# Altium integrated library ALTIUM-WCAP-ASLI-rev17a.IntLib: 142 symbols (part 1 of 2)
Pins are listed as number, name and electrical type; pins without a type are passive.

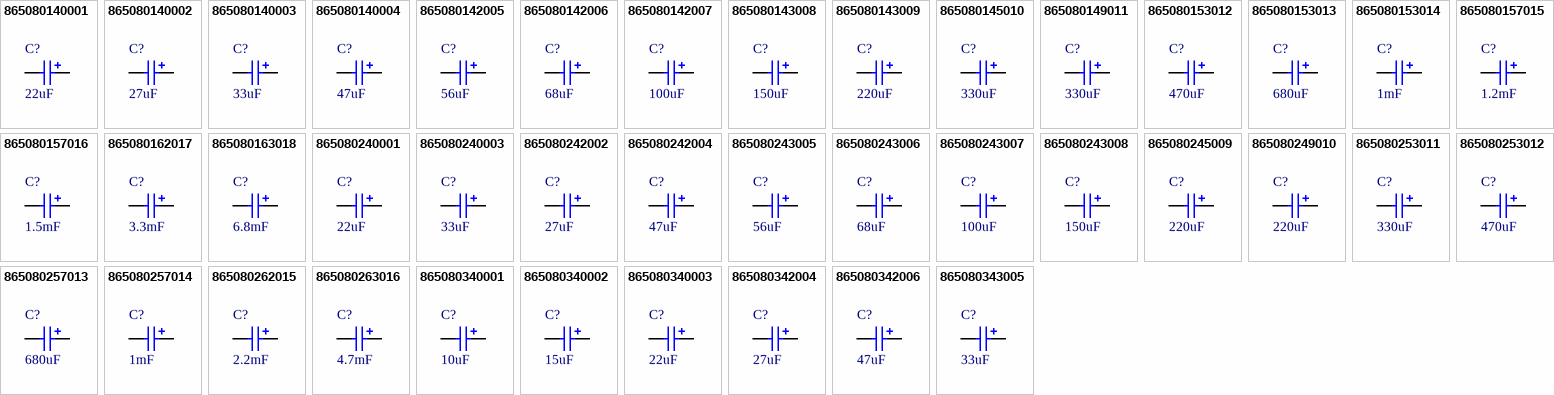
[diagram p0: symbols 865080140001 to 865080343005]

## 865080140001
designator C?  value 22uF
WCAP-ASLI Aluminum Electrolytic Capacitors, size Ф4x5.5mm, 6.3V DC, 22uF; Part Number: 865080140001; Rated Voltage: 6.3V DC; ComponentLink1Description: Manufacturer; ComponentLink1URL: http://www.we-online.de; ComponentLink2Description: Datasheet; ComponentLink2URL: http://katalog.we-online.de/pbs/datasheet/865080140001.pdf; Published Date: June 2017; Publisher: Wurth Elektronik; Size: Ф4x5.5mm; Life Cycle: 2000h; Operating Temperature: -55 °C up to +105 °C
footprint WCAP-ASLI_4x5.5
pins: 1 P, 2 N

## 865080140002
designator C?  value 27uF
WCAP-ASLI Aluminum Electrolytic Capacitors, size Ф4x5.5mm, 6.3V DC, 27uF; Part Number: 865080140002; Rated Voltage: 6.3V DC; ComponentLink1Description: Manufacturer; ComponentLink1URL: http://www.we-online.de; ComponentLink2Description: Datasheet; ComponentLink2URL: http://katalog.we-online.de/pbs/datasheet/865080140002.pdf; Published Date: June 2017; Publisher: Wurth Elektronik; Size: Ф4x5.5mm; Life Cycle: 2000h; Operating Temperature: -55 °C up to +105 °C
footprint WCAP-ASLI_4x5.5
pins: 1 P, 2 N

## 865080140003
designator C?  value 33uF
WCAP-ASLI Aluminum Electrolytic Capacitors, size Ф4x5.5mm, 6.3V DC, 33uF; Part Number: 865080140003; Rated Voltage: 6.3V DC; ComponentLink1Description: Manufacturer; ComponentLink1URL: http://www.we-online.de; ComponentLink2Description: Datasheet; ComponentLink2URL: http://katalog.we-online.de/pbs/datasheet/865080140003.pdf; Published Date: June 2017; Publisher: Wurth Elektronik; Size: Ф4x5.5mm; Life Cycle: 2000h; Operating Temperature: -55 °C up to +105 °C
footprint WCAP-ASLI_4x5.5
pins: 1 P, 2 N

## 865080140004
designator C?  value 47uF
WCAP-ASLI Aluminum Electrolytic Capacitors, size Ф4x5.5mm, 6.3V DC, 47uF; Part Number: 865080140004; Rated Voltage: 6.3V DC; ComponentLink1Description: Manufacturer; ComponentLink1URL: http://www.we-online.de; ComponentLink2Description: Datasheet; ComponentLink2URL: http://katalog.we-online.de/pbs/datasheet/865080140004.pdf; Published Date: June 2017; Publisher: Wurth Elektronik; Size: Ф4x5.5mm; Life Cycle: 2000h; Operating Temperature: -55 °C up to +105 °C
footprint WCAP-ASLI_4x5.5
pins: 1 P, 2 N

## 865080142005
designator C?  value 56uF
WCAP-ASLI Aluminum Electrolytic Capacitors, size Ф5x5.5mm, 6.3V DC, 56uF; Part Number: 865080142005; Rated Voltage: 6.3V DC; ComponentLink1Description: Manufacturer; ComponentLink1URL: http://www.we-online.de; ComponentLink2Description: Datasheet; ComponentLink2URL: http://katalog.we-online.de/pbs/datasheet/865080142005.pdf; Published Date: June 2017; Publisher: Wurth Elektronik; Size: Ф5x5.5mm; Life Cycle: 2000h; Operating Temperature: -55 °C up to +105 °C
footprint WCAP-ASLI_5x5.5
pins: 1 P, 2 N

## 865080142006
designator C?  value 68uF
WCAP-ASLI Aluminum Electrolytic Capacitors, size Ф5x5.5mm, 6.3V DC, 68uF; Part Number: 865080142006; Rated Voltage: 6.3V DC; ComponentLink1Description: Manufacturer; ComponentLink1URL: http://www.we-online.de; ComponentLink2Description: Datasheet; ComponentLink2URL: http://katalog.we-online.de/pbs/datasheet/865080142006.pdf; Published Date: June 2017; Publisher: Wurth Elektronik; Size: Ф5x5.5mm; Life Cycle: 2000h; Operating Temperature: -55 °C up to +105 °C
footprint WCAP-ASLI_5x5.5
pins: 1 P, 2 N

## 865080142007
designator C?  value 100uF
WCAP-ASLI Aluminum Electrolytic Capacitors, size Ф5x5.5mm, 6.3V DC, 100uF; Part Number: 865080142007; Rated Voltage: 6.3V DC; ComponentLink1Description: Manufacturer; ComponentLink1URL: http://www.we-online.de; ComponentLink2Description: Datasheet; ComponentLink2URL: http://katalog.we-online.de/pbs/datasheet/865080142007.pdf; Published Date: June 2017; Publisher: Wurth Elektronik; Size: Ф5x5.5mm; Life Cycle: 2000h; Operating Temperature: -55 °C up to +105 °C
footprint WCAP-ASLI_5x5.5
pins: 1 P, 2 N

## 865080143008
designator C?  value 150uF
WCAP-ASLI Aluminum Electrolytic Capacitors, size Ф6.3x5.5mm, 6.3V DC, 150uF; Part Number: 865080143008; Rated Voltage: 6.3V DC; ComponentLink1Description: Manufacturer; ComponentLink1URL: http://www.we-online.de; ComponentLink2Description: Datasheet; ComponentLink2URL: http://katalog.we-online.de/pbs/datasheet/865080143008.pdf; Published Date: June 2017; Publisher: Wurth Elektronik; Size: Ф6.3x5.5mm; Life Cycle: 2000h; Operating Temperature: -55 °C up to +105 °C
footprint WCAP-ASLI_6.3x5.5
pins: 1 P, 2 N

## 865080143009
designator C?  value 220uF
WCAP-ASLI Aluminum Electrolytic Capacitors, size Ф6.3x5.5mm, 6.3V DC, 220uF; Part Number: 865080143009; Rated Voltage: 6.3V DC; ComponentLink1Description: Manufacturer; ComponentLink1URL: http://www.we-online.de; ComponentLink2Description: Datasheet; ComponentLink2URL: http://katalog.we-online.de/pbs/datasheet/865080143009.pdf; Published Date: June 2017; Publisher: Wurth Elektronik; Size: Ф6.3x5.5mm; Life Cycle: 2000h; Operating Temperature: -55 °C up to +105 °C
footprint WCAP-ASLI_6.3x5.5
pins: 1 P, 2 N

## 865080145010
designator C?  value 330uF
WCAP-ASLI Aluminum Electrolytic Capacitors, size Ф6.3x7.7mm, 6.3V DC, 330uF; Part Number: 865080145010; Rated Voltage: 6.3V DC; ComponentLink1Description: Manufacturer; ComponentLink1URL: http://www.we-online.de; ComponentLink2Description: Datasheet; ComponentLink2URL: http://katalog.we-online.de/pbs/datasheet/865080145010.pdf; Published Date: June 2017; Publisher: Wurth Elektronik; Size: Ф6.3x7.7mm; Life Cycle: 2000h; Operating Temperature: -55 °C up to +105 °C
footprint WCAP-ASLI_6.3x7.7
pins: 1 P, 2 N

## 865080149011
designator C?  value 330uF
WCAP-ASLI Aluminum Electrolytic Capacitors, size Ф8x6.5mm, 6.3V DC, 330uF; Part Number: 865080149011; Rated Voltage: 6.3V DC; ComponentLink1Description: Manufacturer; ComponentLink1URL: http://www.we-online.de; ComponentLink2Description: Datasheet; ComponentLink2URL: http://katalog.we-online.de/pbs/datasheet/865080149011.pdf; Published Date: June 2017; Publisher: Wurth Elektronik; Size: Ф8x6.5mm; Life Cycle: 2000h; Operating Temperature: -55 °C up to +105 °C
footprint WCAP-ASLI_8x6.5
pins: 1 P, 2 N

## 865080153012
designator C?  value 470uF
WCAP-ASLI Aluminum Electrolytic Capacitors, size Ф8x10.5mm, 6.3V DC, 470uF; Part Number: 865080153012; Rated Voltage: 6.3V DC; ComponentLink1Description: Manufacturer; ComponentLink1URL: http://www.we-online.de; ComponentLink2Description: Datasheet; ComponentLink2URL: http://katalog.we-online.de/pbs/datasheet/865080153012.pdf; Published Date: June 2017; Publisher: Wurth Elektronik; Size: Ф8x10.5mm; Life Cycle: 2000h; Operating Temperature: -55 °C up to +105 °C
footprint WCAP-ASLI_8x10.5
pins: 1 P, 2 N

## 865080153013
designator C?  value 680uF
WCAP-ASLI Aluminum Electrolytic Capacitors, size Ф8x10.5mm, 6.3V DC, 680uF; Part Number: 865080153013; Rated Voltage: 6.3V DC; ComponentLink1Description: Manufacturer; ComponentLink1URL: http://www.we-online.de; ComponentLink2Description: Datasheet; ComponentLink2URL: http://katalog.we-online.de/pbs/datasheet/865080153013.pdf; Published Date: June 2017; Publisher: Wurth Elektronik; Size: Ф8x10.5mm; Life Cycle: 2000h; Operating Temperature: -55 °C up to +105 °C
footprint WCAP-ASLI_8x10.5
pins: 1 P, 2 N

## 865080153014
designator C?  value 1mF
WCAP-ASLI Aluminum Electrolytic Capacitors, size Ф8x10.5mm, 6.3V DC, 1mF; Part Number: 865080153014; Rated Voltage: 6.3V DC; ComponentLink1Description: Manufacturer; ComponentLink1URL: http://www.we-online.de; ComponentLink2Description: Datasheet; ComponentLink2URL: http://katalog.we-online.de/pbs/datasheet/865080153014.pdf; Published Date: June 2017; Publisher: Wurth Elektronik; Size: Ф8x10.5mm; Life Cycle: 2000h; Operating Temperature: -55 °C up to +105 °C
footprint WCAP-ASLI_8x10.5
pins: 1 P, 2 N

## 865080157015
designator C?  value 1.2mF
WCAP-ASLI Aluminum Electrolytic Capacitors, size Ф10x10.5mm, 6.3V DC, 1.2mF; Part Number: 865080157015; Rated Voltage: 6.3V DC; ComponentLink1Description: Manufacturer; ComponentLink1URL: http://www.we-online.de; ComponentLink2Description: Datasheet; ComponentLink2URL: http://katalog.we-online.de/pbs/datasheet/865080157015.pdf; Published Date: June 2017; Publisher: Wurth Elektronik; Size: Ф10x10.5mm; Life Cycle: 2000h; Operating Temperature: -55 °C up to +105 °C
footprint WCAP-ASLI_10x10.5
pins: 1 P, 2 N

## 865080157016
designator C?  value 1.5mF
WCAP-ASLI Aluminum Electrolytic Capacitors, size Ф10x10.5mm, 6.3V DC, 1.5mF; Part Number: 865080157016; Rated Voltage: 6.3V DC; ComponentLink1Description: Manufacturer; ComponentLink1URL: http://www.we-online.de; ComponentLink2Description: Datasheet; ComponentLink2URL: http://katalog.we-online.de/pbs/datasheet/865080157016.pdf; Published Date: June 2017; Publisher: Wurth Elektronik; Size: Ф10x10.5mm; Life Cycle: 2000h; Operating Temperature: -55 °C up to +105 °C
footprint WCAP-ASLI_10x10.5
pins: 1 P, 2 N

## 865080162017
designator C?  value 3.3mF
WCAP-ASLI Aluminum Electrolytic Capacitors, size Ф12.5x14mm, 6.3V DC, 3.3mF; Part Number: 865080162017; Rated Voltage: 6.3V DC; ComponentLink1Description: Manufacturer; ComponentLink1URL: http://www.we-online.de; ComponentLink2Description: Datasheet; ComponentLink2URL: http://katalog.we-online.de/pbs/datasheet/865080162017.pdf; Published Date: June 2017; Publisher: Wurth Elektronik; Size: Ф12.5x14mm; Life Cycle: 2000h; Operating Temperature: -55 °C up to +105 °C
footprint WCAP-ASLI_12.5x14
pins: 1 P, 2 N

## 865080163018
designator C?  value 6.8mF
WCAP-ASLI Aluminum Electrolytic Capacitors, size Ф16x17mm, 6.3V DC, 6.8mF; Part Number: 865080163018; Rated Voltage: 6.3V DC; ComponentLink1Description: Manufacturer; ComponentLink1URL: http://www.we-online.de; ComponentLink2Description: Datasheet; ComponentLink2URL: http://katalog.we-online.de/pbs/datasheet/865080163018.pdf; Published Date: June 2017; Publisher: Wurth Elektronik; Size: Ф16x17mm; Life Cycle: 2000h; Operating Temperature: -55 °C up to +105 °C
footprint WCAP-ASLI_16x17
pins: 1 P, 2 N

## 865080240001
designator C?  value 22uF
WCAP-ASLI Aluminum Electrolytic Capacitors, size Ф4x5.5mm, 10V DC, 22uF; Part Number: 865080240001; Rated Voltage: 10V DC; ComponentLink1Description: Manufacturer; ComponentLink1URL: http://www.we-online.de; ComponentLink2Description: Datasheet; ComponentLink2URL: http://katalog.we-online.de/pbs/datasheet/865080240001.pdf; Published Date: June 2017; Publisher: Wurth Elektronik; Size: Ф4x5.5mm; Life Cycle: 2000h; Operating Temperature: -55 °C up to +105 °C
footprint WCAP-ASLI_4x5.5
pins: 1 P, 2 N

## 865080240003
designator C?  value 33uF
WCAP-ASLI Aluminum Electrolytic Capacitors, size Ф4x5.5mm, 10V DC, 33uF; Part Number: 865080240003; Rated Voltage: 10V DC; ComponentLink1Description: Manufacturer; ComponentLink1URL: http://www.we-online.de; ComponentLink2Description: Datasheet; ComponentLink2URL: http://katalog.we-online.de/pbs/datasheet/865080240003.pdf; Published Date: June 2017; Publisher: Wurth Elektronik; Size: Ф4x5.5mm; Life Cycle: 2000h; Operating Temperature: -55 °C up to +105 °C
footprint WCAP-ASLI_4x5.5
pins: 1 P, 2 N

## 865080242002
designator C?  value 27uF
WCAP-ASLI Aluminum Electrolytic Capacitors, size Ф5x5.5mm, 10V DC, 27uF; Part Number: 865080242002; Rated Voltage: 10V DC; ComponentLink1Description: Manufacturer; ComponentLink1URL: http://www.we-online.de; ComponentLink2Description: Datasheet; ComponentLink2URL: http://katalog.we-online.de/pbs/datasheet/865080242002.pdf; Published Date: June 2017; Publisher: Wurth Elektronik; Size: Ф5x5.5mm; Life Cycle: 2000h; Operating Temperature: -55 °C up to +105 °C
footprint WCAP-ASLI_5x5.5
pins: 1 P, 2 N

## 865080242004
designator C?  value 47uF
WCAP-ASLI Aluminum Electrolytic Capacitors, size Ф5x5.5mm, 10V DC, 47uF; Part Number: 865080242004; Rated Voltage: 10V DC; ComponentLink1Description: Manufacturer; ComponentLink1URL: http://www.we-online.de; ComponentLink2Description: Datasheet; ComponentLink2URL: http://katalog.we-online.de/pbs/datasheet/865080242004.pdf; Published Date: June 2017; Publisher: Wurth Elektronik; Size: Ф5x5.5mm; Life Cycle: 2000h; Operating Temperature: -55 °C up to +105 °C
footprint WCAP-ASLI_5x5.5 (Aluminium Electrolytic V-Chip SMT Capacitors, Ф5x5.5mm)
pins: 1 P, 2 N

## 865080243005
designator C?  value 56uF
WCAP-ASLI Aluminum Electrolytic Capacitors, size Ф6.3x5.5mm, 10V DC, 56uF; Part Number: 865080243005; Rated Voltage: 10V DC; ComponentLink1Description: Manufacturer; ComponentLink1URL: http://www.we-online.de; ComponentLink2Description: Datasheet; ComponentLink2URL: http://katalog.we-online.de/pbs/datasheet/865080243005.pdf; Published Date: June 2017; Publisher: Wurth Elektronik; Size: Ф6.3x5.5mm; Life Cycle: 2000h; Operating Temperature: -55 °C up to +105 °C
footprint WCAP-ASLI_6.3x5.5
pins: 1 P, 2 N

## 865080243006
designator C?  value 68uF
WCAP-ASLI Aluminum Electrolytic Capacitors, size Ф6.3x5.5mm, 10V DC, 68uF; Part Number: 865080243006; Rated Voltage: 10V DC; ComponentLink1Description: Manufacturer; ComponentLink1URL: http://www.we-online.de; ComponentLink2Description: Datasheet; ComponentLink2URL: http://katalog.we-online.de/pbs/datasheet/865080243006.pdf; Published Date: June 2017; Publisher: Wurth Elektronik; Size: Ф6.3x5.5mm; Life Cycle: 2000h; Operating Temperature: -55 °C up to +105 °C
footprint WCAP-ASLI_6.3x5.5
pins: 1 P, 2 N

## 865080243007
designator C?  value 100uF
WCAP-ASLI Aluminum Electrolytic Capacitors, size Ф6.3x5.5mm, 10V DC, 100uF; Part Number: 865080243007; Rated Voltage: 10V DC; ComponentLink1Description: Manufacturer; ComponentLink1URL: http://www.we-online.de; ComponentLink2Description: Datasheet; ComponentLink2URL: http://katalog.we-online.de/pbs/datasheet/865080243007.pdf; Published Date: June 2017; Publisher: Wurth Elektronik; Size: Ф6.3x5.5mm; Life Cycle: 2000h; Operating Temperature: -55 °C up to +105 °C
footprint WCAP-ASLI_6.3x5.5
pins: 1 P, 2 N

## 865080243008
designator C?  value 150uF
WCAP-ASLI Aluminum Electrolytic Capacitors, size Ф6.3x5.5mm, 10V DC, 150uF; Part Number: 865080243008; Rated Voltage: 10V DC; ComponentLink1Description: Manufacturer; ComponentLink1URL: http://www.we-online.de; ComponentLink2Description: Datasheet; ComponentLink2URL: http://katalog.we-online.de/pbs/datasheet/865080243008.pdf; Published Date: June 2017; Publisher: Wurth Elektronik; Size: Ф6.3x5.5mm; Life Cycle: 2000h; Operating Temperature: -55 °C up to +105 °C
footprint WCAP-ASLI_6.3x5.5
pins: 1 P, 2 N

## 865080245009
designator C?  value 220uF
WCAP-ASLI Aluminum Electrolytic Capacitors, size Ф6.3x7.7mm, 10V DC, 220uF; Part Number: 865080245009; Rated Voltage: 10V DC; ComponentLink1Description: Manufacturer; ComponentLink1URL: http://www.we-online.de; ComponentLink2Description: Datasheet; ComponentLink2URL: http://katalog.we-online.de/pbs/datasheet/865080245009.pdf; Published Date: June 2017; Publisher: Wurth Elektronik; Size: Ф6.3x7.7mm; Life Cycle: 2000h; Operating Temperature: -55 °C up to +105 °C
footprint WCAP-ASLI_6.3x7.7
pins: 1 P, 2 N

## 865080249010
designator C?  value 220uF
WCAP-ASLI Aluminum Electrolytic Capacitors, size Ф8x6.5mm, 10V DC, 220uF; Part Number: 865080249010; Rated Voltage: 10V DC; ComponentLink1Description: Manufacturer; ComponentLink1URL: http://www.we-online.de; ComponentLink2Description: Datasheet; ComponentLink2URL: http://katalog.we-online.de/pbs/datasheet/865080249010.pdf; Published Date: June 2017; Publisher: Wurth Elektronik; Size: Ф8x6.5mm; Life Cycle: 2000h; Operating Temperature: -55 °C up to +105 °C
footprint WCAP-ASLI_8x6.5
pins: 1 P, 2 N

## 865080253011
designator C?  value 330uF
WCAP-ASLI Aluminum Electrolytic Capacitors, size Ф8x10.5mm, 10V DC, 330uF; Part Number: 865080253011; Rated Voltage: 10V DC; ComponentLink1Description: Manufacturer; ComponentLink1URL: http://www.we-online.de; ComponentLink2Description: Datasheet; ComponentLink2URL: http://katalog.we-online.de/pbs/datasheet/865080253011.pdf; Published Date: June 2017; Publisher: Wurth Elektronik; Size: Ф8x10.5mm; Life Cycle: 2000h; Operating Temperature: -55 °C up to +105 °C
footprint WCAP-ASLI_8x10.5
pins: 1 P, 2 N

## 865080253012
designator C?  value 470uF
WCAP-ASLI Aluminum Electrolytic Capacitors, size Ф8x10.5mm, 10V DC, 470uF; Part Number: 865080253012; Rated Voltage: 10V DC; ComponentLink1Description: Manufacturer; ComponentLink1URL: http://www.we-online.de; ComponentLink2Description: Datasheet; ComponentLink2URL: http://katalog.we-online.de/pbs/datasheet/865080253012.pdf; Published Date: June 2017; Publisher: Wurth Elektronik; Size: Ф8x10.5mm; Life Cycle: 2000h; Operating Temperature: -55 °C up to +105 °C
footprint WCAP-ASLI_8x10.5
pins: 1 P, 2 N

## 865080257013
designator C?  value 680uF
WCAP-ASLI Aluminum Electrolytic Capacitors, size Ф10x10.5mm, 10V DC, 680uF; Part Number: 865080257013; Rated Voltage: 10V DC; ComponentLink1Description: Manufacturer; ComponentLink1URL: http://www.we-online.de; ComponentLink2Description: Datasheet; ComponentLink2URL: http://katalog.we-online.de/pbs/datasheet/865080257013.pdf; Published Date: June 2017; Publisher: Wurth Elektronik; Size: Ф10x10.5mm; Life Cycle: 2000h; Operating Temperature: -55 °C up to +105 °C
footprint WCAP-ASLI_10x10.5
pins: 1 P, 2 N

## 865080257014
designator C?  value 1mF
WCAP-ASLI Aluminum Electrolytic Capacitors, size Ф10x10.5mm, 10V DC, 1mF; Part Number: 865080257014; Rated Voltage: 10V DC; ComponentLink1Description: Manufacturer; ComponentLink1URL: http://www.we-online.de; ComponentLink2Description: Datasheet; ComponentLink2URL: http://katalog.we-online.de/pbs/datasheet/865080257014.pdf; Published Date: June 2017; Publisher: Wurth Elektronik; Size: Ф10x10.5mm; Life Cycle: 2000h; Operating Temperature: -55 °C up to +105 °C
footprint WCAP-ASLI_10x10.5
pins: 1 P, 2 N

## 865080262015
designator C?  value 2.2mF
WCAP-ASLI Aluminum Electrolytic Capacitors, size Ф12.5x14mm, 10V DC, 2.2mF; Part Number: 865080262015; Rated Voltage: 10V DC; ComponentLink1Description: Manufacturer; ComponentLink1URL: http://www.we-online.de; ComponentLink2Description: Datasheet; ComponentLink2URL: http://katalog.we-online.de/pbs/datasheet/865080262015.pdf; Published Date: June 2017; Publisher: Wurth Elektronik; Size: Ф12.5x14mm; Life Cycle: 2000h; Operating Temperature: -55 °C up to +105 °C
footprint WCAP-ASLI_12.5x14
pins: 1 P, 2 N

## 865080263016
designator C?  value 4.7mF
WCAP-ASLI Aluminum Electrolytic Capacitors, size Ф16x17mm, 10V DC, 4.7mF; Part Number: 865080263016; Rated Voltage: 10V DC; ComponentLink1Description: Manufacturer; ComponentLink1URL: http://www.we-online.de; ComponentLink2Description: Datasheet; ComponentLink2URL: http://katalog.we-online.de/pbs/datasheet/865080263016.pdf; Published Date: June 2017; Publisher: Wurth Elektronik; Size: Ф16x17mm; Life Cycle: 2000h; Operating Temperature: -55 °C up to +105 °C
footprint WCAP-ASLI_16x17
pins: 1 P, 2 N

## 865080340001
designator C?  value 10uF
WCAP-ASLI Aluminum Electrolytic Capacitors, size Ф4x5.5mm, 16V DC, 10uF; Part Number: 865080340001; Rated Voltage: 16V DC; ComponentLink1Description: Manufacturer; ComponentLink1URL: http://www.we-online.de; ComponentLink2Description: Datasheet; ComponentLink2URL: http://katalog.we-online.de/pbs/datasheet/865080340001.pdf; Published Date: June 2017; Publisher: Wurth Elektronik; Size: Ф4x5.5mm; Life Cycle: 2000h; Operating Temperature: -55 °C up to +105 °C
footprint WCAP-ASLI_4x5.5
pins: 1 P, 2 N

## 865080340002
designator C?  value 15uF
WCAP-ASLI Aluminum Electrolytic Capacitors, size Ф4x5.5mm, 16V DC, 15uF; Part Number: 865080340002; Rated Voltage: 16V DC; ComponentLink1Description: Manufacturer; ComponentLink1URL: http://www.we-online.de; ComponentLink2Description: Datasheet; ComponentLink2URL: http://katalog.we-online.de/pbs/datasheet/865080340002.pdf; Published Date: June 2017; Publisher: Wurth Elektronik; Size: Ф4x5.5mm; Life Cycle: 2000h; Operating Temperature: -55 °C up to +105 °C
footprint WCAP-ASLI_4x5.5
pins: 1 P, 2 N

## 865080340003
designator C?  value 22uF
WCAP-ASLI Aluminum Electrolytic Capacitors, size Ф4x5.5mm, 16V DC, 22uF; Part Number: 865080340003; Rated Voltage: 16V DC; ComponentLink1Description: Manufacturer; ComponentLink1URL: http://www.we-online.de; ComponentLink2Description: Datasheet; ComponentLink2URL: http://katalog.we-online.de/pbs/datasheet/865080340003.pdf; Published Date: June 2017; Publisher: Wurth Elektronik; Size: Ф4x5.5mm; Life Cycle: 2000h; Operating Temperature: -55 °C up to +105 °C
footprint WCAP-ASLI_4x5.5
pins: 1 P, 2 N

## 865080342004
designator C?  value 27uF
WCAP-ASLI Aluminum Electrolytic Capacitors, size Ф5x5.5mm, 16V DC, 27uF; Part Number: 865080342004; Rated Voltage: 16V DC; ComponentLink1Description: Manufacturer; ComponentLink1URL: http://www.we-online.de; ComponentLink2Description: Datasheet; ComponentLink2URL: http://katalog.we-online.de/pbs/datasheet/865080342004.pdf; Published Date: June 2017; Publisher: Wurth Elektronik; Size: Ф5x5.5mm; Life Cycle: 2000h; Operating Temperature: -55 °C up to +105 °C
footprint WCAP-ASLI_5x5.5
pins: 1 P, 2 N

## 865080342006
designator C?  value 47uF
WCAP-ASLI Aluminum Electrolytic Capacitors, size Ф5x5.5mm, 16V DC, 47uF; Part Number: 865080342006; Rated Voltage: 16V DC; ComponentLink1Description: Manufacturer; ComponentLink1URL: http://www.we-online.de; ComponentLink2Description: Datasheet; ComponentLink2URL: http://katalog.we-online.de/pbs/datasheet/865080342006.pdf; Published Date: June 2017; Publisher: Wurth Elektronik; Size: Ф5x5.5mm; Life Cycle: 2000h; Operating Temperature: -55 °C up to +105 °C
footprint WCAP-ASLI_5x5.5
pins: 1 P, 2 N

## 865080343005
designator C?  value 33uF
WCAP-ASLI Aluminum Electrolytic Capacitors, size Ф6.3x5.5mm, 16V DC, 33uF; Part Number: 865080343005; Rated Voltage: 16V DC; ComponentLink1Description: Manufacturer; ComponentLink1URL: http://www.we-online.de; ComponentLink2Description: Datasheet; ComponentLink2URL: http://katalog.we-online.de/pbs/datasheet/865080343005.pdf; Published Date: June 2017; Publisher: Wurth Elektronik; Size: Ф6.3x5.5mm; Life Cycle: 2000h; Operating Temperature: -55 °C up to +105 °C
footprint WCAP-ASLI_6.3x5.5
pins: 1 P, 2 N

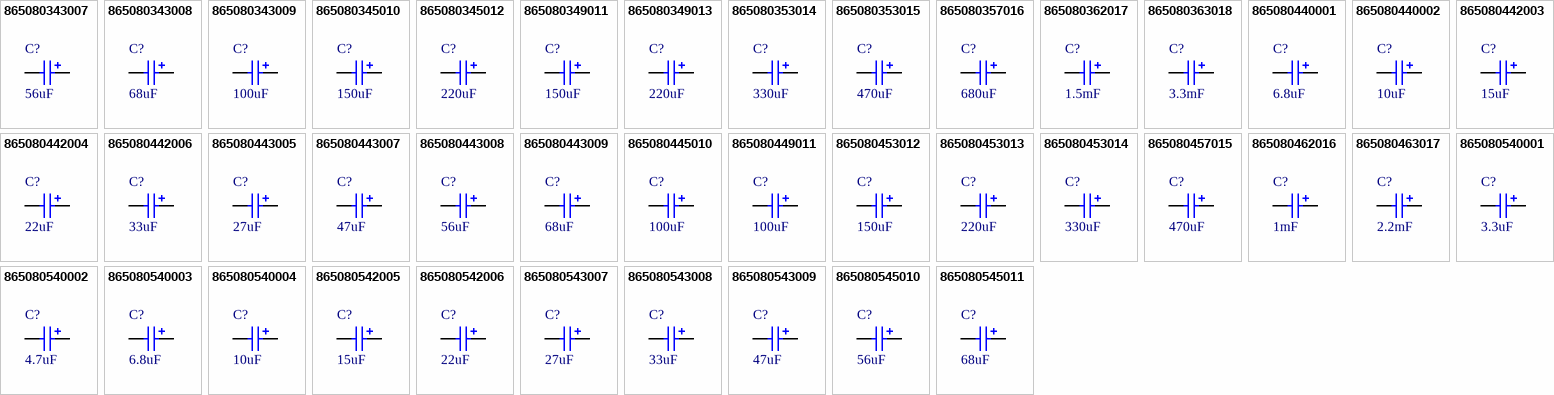
[diagram p1: symbols 865080343007 to 865080545011]

## 865080343007
designator C?  value 56uF
WCAP-ASLI Aluminum Electrolytic Capacitors, size Ф6.3x5.5mm, 16V DC, 56uF; Part Number: 865080343007; Rated Voltage: 16V DC; ComponentLink1Description: Manufacturer; ComponentLink1URL: http://www.we-online.de; ComponentLink2Description: Datasheet; ComponentLink2URL: http://katalog.we-online.de/pbs/datasheet/865080343007.pdf; Published Date: June 2017; Publisher: Wurth Elektronik; Size: Ф6.3x5.5mm; Life Cycle: 2000h; Operating Temperature: -55 °C up to +105 °C
footprint WCAP-ASLI_6.3x5.5
pins: 1 P, 2 N

## 865080343008
designator C?  value 68uF
WCAP-ASLI Aluminum Electrolytic Capacitors, size Ф6.3x5.5mm, 16V DC, 68uF; Part Number: 865080343008; Rated Voltage: 16V DC; ComponentLink1Description: Manufacturer; ComponentLink1URL: http://www.we-online.de; ComponentLink2Description: Datasheet; ComponentLink2URL: http://katalog.we-online.de/pbs/datasheet/865080343008.pdf; Published Date: June 2017; Publisher: Wurth Elektronik; Size: Ф6.3x5.5mm; Life Cycle: 2000h; Operating Temperature: -55 °C up to +105 °C
footprint WCAP-ASLI_6.3x5.5
pins: 1 P, 2 N

## 865080343009
designator C?  value 100uF
WCAP-ASLI Aluminum Electrolytic Capacitors, size Ф6.3x5.5mm, 16V DC, 100uF; Part Number: 865080343009; Rated Voltage: 16V DC; ComponentLink1Description: Manufacturer; ComponentLink1URL: http://www.we-online.de; ComponentLink2Description: Datasheet; ComponentLink2URL: http://katalog.we-online.de/pbs/datasheet/865080343009.pdf; Published Date: June 2017; Publisher: Wurth Elektronik; Size: Ф6.3x5.5mm; Life Cycle: 2000h; Operating Temperature: -55 °C up to +105 °C
footprint WCAP-ASLI_6.3x5.5
pins: 1 P, 2 N

## 865080345010
designator C?  value 150uF
WCAP-ASLI Aluminum Electrolytic Capacitors, size Ф6.3x7.7mm, 16V DC, 150uF; Part Number: 865080345010; Rated Voltage: 16V DC; ComponentLink1Description: Manufacturer; ComponentLink1URL: http://www.we-online.de; ComponentLink2Description: Datasheet; ComponentLink2URL: http://katalog.we-online.de/pbs/datasheet/865080345010.pdf; Published Date: June 2017; Publisher: Wurth Elektronik; Size: Ф6.3x7.7mm; Life Cycle: 2000h; Operating Temperature: -55 °C up to +105 °C
footprint WCAP-ASLI_6.3x7.7
pins: 1 P, 2 N

## 865080345012
designator C?  value 220uF
WCAP-ASLI Aluminum Electrolytic Capacitors, size Ф6.3x7.7mm, 16V DC, 220uF; Part Number: 865080345012; Rated Voltage: 16V DC; ComponentLink1Description: Manufacturer; ComponentLink1URL: http://www.we-online.de; ComponentLink2Description: Datasheet; ComponentLink2URL: http://katalog.we-online.de/pbs/datasheet/865080345012.pdf; Published Date: June 2017; Publisher: Wurth Elektronik; Size: Ф6.3x7.7mm; Life Cycle: 2000h; Operating Temperature: -55 °C up to +105 °C
footprint WCAP-ASLI_6.3x7.7
pins: 1 P, 2 N

## 865080349011
designator C?  value 150uF
WCAP-ASLI Aluminum Electrolytic Capacitors, size Ф8x6.5mm, 16V DC, 150uF; Part Number: 865080349011; Rated Voltage: 16V DC; ComponentLink1Description: Manufacturer; ComponentLink1URL: http://www.we-online.de; ComponentLink2Description: Datasheet; ComponentLink2URL: http://katalog.we-online.de/pbs/datasheet/865080349011.pdf; Published Date: June 2017; Publisher: Wurth Elektronik; Size: Ф8x6.5mm; Life Cycle: 2000h; Operating Temperature: -55 °C up to +105 °C
footprint WCAP-ASLI_8x6.5
pins: 1 P, 2 N

## 865080349013
designator C?  value 220uF
WCAP-ASLI Aluminum Electrolytic Capacitors, size Ф8x6.5mm, 16V DC, 220uF; Part Number: 865080349013; Rated Voltage: 16V DC; ComponentLink1Description: Manufacturer; ComponentLink1URL: http://www.we-online.de; ComponentLink2Description: Datasheet; ComponentLink2URL: http://katalog.we-online.de/pbs/datasheet/865080349013.pdf; Published Date: June 2017; Publisher: Wurth Elektronik; Size: Ф8x6.5mm; Life Cycle: 2000h; Operating Temperature: -55 °C up to +105 °C
footprint WCAP-ASLI_8x6.5
pins: 1 P, 2 N

## 865080353014
designator C?  value 330uF
WCAP-ASLI Aluminum Electrolytic Capacitors, size Ф8x10.5mm, 16V DC, 330uF; Part Number: 865080353014; Rated Voltage: 16V DC; ComponentLink1Description: Manufacturer; ComponentLink1URL: http://www.we-online.de; ComponentLink2Description: Datasheet; ComponentLink2URL: http://katalog.we-online.de/pbs/datasheet/865080353014.pdf; Published Date: June 2017; Publisher: Wurth Elektronik; Size: Ф8x10.5mm; Life Cycle: 2000h; Operating Temperature: -55 °C up to +105 °C
footprint WCAP-ASLI_8x10.5
pins: 1 P, 2 N

## 865080353015
designator C?  value 470uF
WCAP-ASLI Aluminum Electrolytic Capacitors, size Ф8x10.5mm, 16V DC, 470uF; Part Number: 865080353015; Rated Voltage: 16V DC; ComponentLink1Description: Manufacturer; ComponentLink1URL: http://www.we-online.de; ComponentLink2Description: Datasheet; ComponentLink2URL: http://katalog.we-online.de/pbs/datasheet/865080353015.pdf; Published Date: June 2017; Publisher: Wurth Elektronik; Size: Ф8x10.5mm; Life Cycle: 2000h; Operating Temperature: -55 °C up to +105 °C
footprint WCAP-ASLI_8x10.5
pins: 1 P, 2 N

## 865080357016
designator C?  value 680uF
WCAP-ASLI Aluminum Electrolytic Capacitors, size Ф10x10.5mm, 16V DC, 680uF; Part Number: 865080357016; Rated Voltage: 16V DC; ComponentLink1Description: Manufacturer; ComponentLink1URL: http://www.we-online.de; ComponentLink2Description: Datasheet; ComponentLink2URL: http://katalog.we-online.de/pbs/datasheet/865080357016.pdf; Published Date: June 2017; Publisher: Wurth Elektronik; Size: Ф10x10.5mm; Life Cycle: 2000h; Operating Temperature: -55 °C up to +105 °C
footprint WCAP-ASLI_10x10.5
pins: 1 P, 2 N

## 865080362017
designator C?  value 1.5mF
WCAP-ASLI Aluminum Electrolytic Capacitors, size Ф12.5x14mm, 16V DC, 1.5mF; Part Number: 865080362017; Rated Voltage: 16V DC; ComponentLink1Description: Manufacturer; ComponentLink1URL: http://www.we-online.de; ComponentLink2Description: Datasheet; ComponentLink2URL: http://katalog.we-online.de/pbs/datasheet/865080362017.pdf; Published Date: June 2017; Publisher: Wurth Elektronik; Size: Ф12.5x14mm; Life Cycle: 2000h; Operating Temperature: -55 °C up to +105 °C
footprint WCAP-ASLI_12.5x14
pins: 1 P, 2 N

## 865080363018
designator C?  value 3.3mF
WCAP-ASLI Aluminum Electrolytic Capacitors, size Ф16x17mm, 16V DC, 3.3mF; Part Number: 865080363018; Rated Voltage: 16V DC; ComponentLink1Description: Manufacturer; ComponentLink1URL: http://www.we-online.de; ComponentLink2Description: Datasheet; ComponentLink2URL: http://katalog.we-online.de/pbs/datasheet/865080363018.pdf; Published Date: June 2017; Publisher: Wurth Elektronik; Size: Ф16x17mm; Life Cycle: 2000h; Operating Temperature: -55 °C up to +105 °C
footprint WCAP-ASLI_16x17
pins: 1 P, 2 N

## 865080440001
designator C?  value 6.8uF
WCAP-ASLI Aluminum Electrolytic Capacitors, size Ф4x5.5mm, 25V DC, 6.8uF; Part Number: 865080440001; Rated Voltage: 25V DC; ComponentLink1Description: Manufacturer; ComponentLink1URL: http://www.we-online.de; ComponentLink2Description: Datasheet; ComponentLink2URL: http://katalog.we-online.de/pbs/datasheet/865080440001.pdf; Published Date: June 2017; Publisher: Wurth Elektronik; Size: Ф4x5.5mm; Life Cycle: 2000h; Operating Temperature: -55 °C up to +105 °C
footprint WCAP-ASLI_4x5.5
pins: 1 P, 2 N

## 865080440002
designator C?  value 10uF
WCAP-ASLI Aluminum Electrolytic Capacitors, size Ф4x5.5mm, 25V DC, 10uF; Part Number: 865080440002; Rated Voltage: 25V DC; ComponentLink1Description: Manufacturer; ComponentLink1URL: http://www.we-online.de; ComponentLink2Description: Datasheet; ComponentLink2URL: http://katalog.we-online.de/pbs/datasheet/865080440002.pdf; Published Date: June 2017; Publisher: Wurth Elektronik; Size: Ф4x5.5mm; Life Cycle: 2000h; Operating Temperature: -55 °C up to +105 °C
footprint WCAP-ASLI_4x5.5
pins: 1 P, 2 N

## 865080442003
designator C?  value 15uF
WCAP-ASLI Aluminum Electrolytic Capacitors, size Ф5x5.5mm, 25V DC, 15uF; Part Number: 865080442003; Rated Voltage: 25V DC; ComponentLink1Description: Manufacturer; ComponentLink1URL: http://www.we-online.de; ComponentLink2Description: Datasheet; ComponentLink2URL: http://katalog.we-online.de/pbs/datasheet/865080442003.pdf; Published Date: June 2017; Publisher: Wurth Elektronik; Size: Ф5x5.5mm; Life Cycle: 2000h; Operating Temperature: -55 °C up to +105 °C
footprint WCAP-ASLI_5x5.5
pins: 1 P, 2 N

## 865080442004
designator C?  value 22uF
WCAP-ASLI Aluminum Electrolytic Capacitors, size Ф5x5.5mm, 25V DC, 22uF; Part Number: 865080442004; Rated Voltage: 25V DC; ComponentLink1Description: Manufacturer; ComponentLink1URL: http://www.we-online.de; ComponentLink2Description: Datasheet; ComponentLink2URL: http://katalog.we-online.de/pbs/datasheet/865080442004.pdf; Published Date: June 2017; Publisher: Wurth Elektronik; Size: Ф5x5.5mm; Life Cycle: 2000h; Operating Temperature: -55 °C up to +105 °C
footprint WCAP-ASLI_5x5.5
pins: 1 P, 2 N

## 865080442006
designator C?  value 33uF
WCAP-ASLI Aluminum Electrolytic Capacitors, size Ф5x5.5mm, 25V DC, 33uF; Part Number: 865080442006; Rated Voltage: 25V DC; ComponentLink1Description: Manufacturer; ComponentLink1URL: http://www.we-online.de; ComponentLink2Description: Datasheet; ComponentLink2URL: http://katalog.we-online.de/pbs/datasheet/865080442006.pdf; Published Date: June 2017; Publisher: Wurth Elektronik; Size: Ф5x5.5mm; Life Cycle: 2000h; Operating Temperature: -55 °C up to +105 °C
footprint WCAP-ASLI_5x5.5
pins: 1 P, 2 N

## 865080443005
designator C?  value 27uF
WCAP-ASLI Aluminum Electrolytic Capacitors, size Ф6.3x5.5mm, 25V DC, 27uF; Part Number: 865080443005; Rated Voltage: 25V DC; ComponentLink1Description: Manufacturer; ComponentLink1URL: http://www.we-online.de; ComponentLink2Description: Datasheet; ComponentLink2URL: http://katalog.we-online.de/pbs/datasheet/865080443005.pdf; Published Date: June 2017; Publisher: Wurth Elektronik; Size: Ф6.3x5.5mm; Life Cycle: 2000h; Operating Temperature: -55 °C up to +105 °C
footprint WCAP-ASLI_6.3x5.5
pins: 1 P, 2 N

## 865080443007
designator C?  value 47uF
WCAP-ASLI Aluminum Electrolytic Capacitors, size Ф6.3x5.5mm, 25V DC, 47uF; Part Number: 865080443007; Rated Voltage: 25V DC; ComponentLink1Description: Manufacturer; ComponentLink1URL: http://www.we-online.de; ComponentLink2Description: Datasheet; ComponentLink2URL: http://katalog.we-online.de/pbs/datasheet/865080443007.pdf; Published Date: June 2017; Publisher: Wurth Elektronik; Size: Ф6.3x5.5mm; Life Cycle: 2000h; Operating Temperature: -55 °C up to +105 °C
footprint WCAP-ASLI_6.3x5.5
pins: 1 P, 2 N

## 865080443008
designator C?  value 56uF
WCAP-ASLI Aluminum Electrolytic Capacitors, size Ф6.3x5.5mm, 25V DC, 56uF; Part Number: 865080443008; Rated Voltage: 25V DC; ComponentLink1Description: Manufacturer; ComponentLink1URL: http://www.we-online.de; ComponentLink2Description: Datasheet; ComponentLink2URL: http://katalog.we-online.de/pbs/datasheet/865080443008.pdf; Published Date: June 2017; Publisher: Wurth Elektronik; Size: Ф6.3x5.5mm; Life Cycle: 2000h; Operating Temperature: -55 °C up to +105 °C
footprint WCAP-ASLI_6.3x5.5
pins: 1 P, 2 N

## 865080443009
designator C?  value 68uF
WCAP-ASLI Aluminum Electrolytic Capacitors, size Ф6.3x5.5mm, 25V DC, 68uF; Part Number: 865080443009; Rated Voltage: 25V DC; ComponentLink1Description: Manufacturer; ComponentLink1URL: http://www.we-online.de; ComponentLink2Description: Datasheet; ComponentLink2URL: http://katalog.we-online.de/pbs/datasheet/865080443009.pdf; Published Date: June 2017; Publisher: Wurth Elektronik; Size: Ф6.3x5.5mm; Life Cycle: 2000h; Operating Temperature: -55 °C up to +105 °C
footprint WCAP-ASLI_6.3x5.5
pins: 1 P, 2 N

## 865080445010
designator C?  value 100uF
WCAP-ASLI Aluminum Electrolytic Capacitors, size Ф6.3x7.7mm, 25V DC, 100uF; Part Number: 865080445010; Rated Voltage: 25V DC; ComponentLink1Description: Manufacturer; ComponentLink1URL: http://www.we-online.de; ComponentLink2Description: Datasheet; ComponentLink2URL: http://katalog.we-online.de/pbs/datasheet/865080445010.pdf; Published Date: June 2017; Publisher: Wurth Elektronik; Size: Ф6.3x7.7mm; Life Cycle: 2000h; Operating Temperature: -55 °C up to +105 °C
footprint WCAP-ASLI_6.3x7.7
pins: 1 P, 2 N

## 865080449011
designator C?  value 100uF
WCAP-ASLI Aluminum Electrolytic Capacitors, size Ф8x6.5mm, 25V DC, 100uF; Part Number: 865080449011; Rated Voltage: 25V DC; ComponentLink1Description: Manufacturer; ComponentLink1URL: http://www.we-online.de; ComponentLink2Description: Datasheet; ComponentLink2URL: http://katalog.we-online.de/pbs/datasheet/865080449011.pdf; Published Date: June 2017; Publisher: Wurth Elektronik; Size: Ф8x6.5mm; Life Cycle: 2000h; Operating Temperature: -55 °C up to +105 °C
footprint WCAP-ASLI_8x6.5
pins: 1 P, 2 N

## 865080453012
designator C?  value 150uF
WCAP-ASLI Aluminum Electrolytic Capacitors, size Ф8x10.5mm, 25V DC, 150uF; Part Number: 865080453012; Rated Voltage: 25V DC; ComponentLink1Description: Manufacturer; ComponentLink1URL: http://www.we-online.de; ComponentLink2Description: Datasheet; ComponentLink2URL: http://katalog.we-online.de/pbs/datasheet/865080453012.pdf; Published Date: June 2017; Publisher: Wurth Elektronik; Size: Ф8x10.5mm; Life Cycle: 2000h; Operating Temperature: -55 °C up to +105 °C
footprint WCAP-ASLI_8x10.5
pins: 1 P, 2 N

## 865080453013
designator C?  value 220uF
WCAP-ASLI Aluminum Electrolytic Capacitors, size Ф8x10.5mm, 25V DC, 220uF; Part Number: 865080453013; Rated Voltage: 25V DC; ComponentLink1Description: Manufacturer; ComponentLink1URL: http://www.we-online.de; ComponentLink2Description: Datasheet; ComponentLink2URL: http://katalog.we-online.de/pbs/datasheet/865080453013.pdf; Published Date: June 2017; Publisher: Wurth Elektronik; Size: Ф8x10.5mm; Life Cycle: 2000h; Operating Temperature: -55 °C up to +105 °C
footprint WCAP-ASLI_8x10.5
pins: 1 P, 2 N

## 865080453014
designator C?  value 330uF
WCAP-ASLI Aluminum Electrolytic Capacitors, size Ф8x10.5mm, 25V DC, 330uF; Part Number: 865080453014; Rated Voltage: 25V DC; ComponentLink1Description: Manufacturer; ComponentLink1URL: http://www.we-online.de; ComponentLink2Description: Datasheet; ComponentLink2URL: http://katalog.we-online.de/pbs/datasheet/865080453014.pdf; Published Date: June 2017; Publisher: Wurth Elektronik; Size: Ф8x10.5mm; Life Cycle: 2000h; Operating Temperature: -55 °C up to +105 °C
footprint WCAP-ASLI_8x10.5
pins: 1 P, 2 N

## 865080457015
designator C?  value 470uF
WCAP-ASLI Aluminum Electrolytic Capacitors, size Ф10x10.5mm, 25V DC, 470uF; Part Number: 865080457015; Rated Voltage: 25V DC; ComponentLink1Description: Manufacturer; ComponentLink1URL: http://www.we-online.de; ComponentLink2Description: Datasheet; ComponentLink2URL: http://katalog.we-online.de/pbs/datasheet/865080457015.pdf; Published Date: June 2017; Publisher: Wurth Elektronik; Size: Ф10x10.5mm; Life Cycle: 2000h; Operating Temperature: -55 °C up to +105 °C
footprint WCAP-ASLI_10x10.5
pins: 1 P, 2 N

## 865080462016
designator C?  value 1mF
WCAP-ASLI Aluminum Electrolytic Capacitors, size Ф12.5x14mm, 25V DC, 1mF; Part Number: 865080462016; Rated Voltage: 25V DC; ComponentLink1Description: Manufacturer; ComponentLink1URL: http://www.we-online.de; ComponentLink2Description: Datasheet; ComponentLink2URL: http://katalog.we-online.de/pbs/datasheet/865080462016.pdf; Published Date: June 2017; Publisher: Wurth Elektronik; Size: Ф12.5x14mm; Life Cycle: 2000h; Operating Temperature: -55 °C up to +105 °C
footprint WCAP-ASLI_12.5x14
pins: 1 P, 2 N

## 865080463017
designator C?  value 2.2mF
WCAP-ASLI Aluminum Electrolytic Capacitors, size Ф16x17mm, 25V DC, 2.2mF; Part Number: 865080463017; Rated Voltage: 25V DC; ComponentLink1Description: Manufacturer; ComponentLink1URL: http://www.we-online.de; ComponentLink2Description: Datasheet; ComponentLink2URL: http://katalog.we-online.de/pbs/datasheet/865080463017.pdf; Published Date: June 2017; Publisher: Wurth Elektronik; Size: Ф16x17mm; Life Cycle: 2000h; Operating Temperature: -55 °C up to +105 °C
footprint WCAP-ASLI_16x17
pins: 1 P, 2 N

## 865080540001
designator C?  value 3.3uF
WCAP-ASLI Aluminum Electrolytic Capacitors, size Ф4x5.5mm, 35V DC, 3.3uF; Part Number: 865080540001; Rated Voltage: 35V DC; ComponentLink1Description: Manufacturer; ComponentLink1URL: http://www.we-online.de; ComponentLink2Description: Datasheet; ComponentLink2URL: http://katalog.we-online.de/pbs/datasheet/865080540001.pdf; Published Date: June 2017; Publisher: Wurth Elektronik; Size: Ф4x5.5mm; Life Cycle: 2000h; Operating Temperature: -55 °C up to +105 °C
footprint WCAP-ASLI_4x5.5
pins: 1 P, 2 N

## 865080540002
designator C?  value 4.7uF
WCAP-ASLI Aluminum Electrolytic Capacitors, size Ф4x5.5mm, 35V DC, 4.7uF; Part Number: 865080540002; Rated Voltage: 35V DC; ComponentLink1Description: Manufacturer; ComponentLink1URL: http://www.we-online.de; ComponentLink2Description: Datasheet; ComponentLink2URL: http://katalog.we-online.de/pbs/datasheet/865080540002.pdf; Published Date: June 2017; Publisher: Wurth Elektronik; Size: Ф4x5.5mm; Life Cycle: 2000h; Operating Temperature: -55 °C up to +105 °C
footprint WCAP-ASLI_4x5.5
pins: 1 P, 2 N

## 865080540003
designator C?  value 6.8uF
WCAP-ASLI Aluminum Electrolytic Capacitors, size Ф4x5.5mm, 35V DC, 6.8uF; Part Number: 865080540003; Rated Voltage: 35V DC; ComponentLink1Description: Manufacturer; ComponentLink1URL: http://www.we-online.de; ComponentLink2Description: Datasheet; ComponentLink2URL: http://katalog.we-online.de/pbs/datasheet/865080540003.pdf; Published Date: June 2017; Publisher: Wurth Elektronik; Size: Ф4x5.5mm; Life Cycle: 2000h; Operating Temperature: -55 °C up to +105 °C
footprint WCAP-ASLI_4x5.5
pins: 1 P, 2 N

## 865080540004
designator C?  value 10uF
WCAP-ASLI Aluminum Electrolytic Capacitors, size Ф4x5.5mm, 35V DC, 10uF; Part Number: 865080540004; Rated Voltage: 35V DC; ComponentLink1Description: Manufacturer; ComponentLink1URL: http://www.we-online.de; ComponentLink2Description: Datasheet; ComponentLink2URL: http://katalog.we-online.de/pbs/datasheet/865080540004.pdf; Published Date: June 2017; Publisher: Wurth Elektronik; Size: Ф4x5.5mm; Life Cycle: 2000h; Operating Temperature: -55 °C up to +105 °C
footprint WCAP-ASLI_4x5.5
pins: 1 P, 2 N

## 865080542005
designator C?  value 15uF
WCAP-ASLI Aluminum Electrolytic Capacitors, size Ф5x5.5mm, 35V DC, 15uF; Part Number: 865080542005; Rated Voltage: 35V DC; ComponentLink1Description: Manufacturer; ComponentLink1URL: http://www.we-online.de; ComponentLink2Description: Datasheet; ComponentLink2URL: http://katalog.we-online.de/pbs/datasheet/865080542005.pdf; Published Date: June 2017; Publisher: Wurth Elektronik; Size: Ф5x5.5mm; Life Cycle: 2000h; Operating Temperature: -55 °C up to +105 °C
footprint WCAP-ASLI_5x5.5
pins: 1 P, 2 N

## 865080542006
designator C?  value 22uF
WCAP-ASLI Aluminum Electrolytic Capacitors, size Ф5x5.5mm, 35V DC, 22uF; Part Number: 865080542006; Rated Voltage: 35V DC; ComponentLink1Description: Manufacturer; ComponentLink1URL: http://www.we-online.de; ComponentLink2Description: Datasheet; ComponentLink2URL: http://katalog.we-online.de/pbs/datasheet/865080542006.pdf; Published Date: June 2017; Publisher: Wurth Elektronik; Size: Ф5x5.5mm; Life Cycle: 2000h; Operating Temperature: -55 °C up to +105 °C
footprint WCAP-ASLI_5x5.5
pins: 1 P, 2 N

## 865080543007
designator C?  value 27uF
WCAP-ASLI Aluminum Electrolytic Capacitors, size Ф6.3x5.5mm, 35V DC, 27uF; Part Number: 865080543007; Rated Voltage: 35V DC; ComponentLink1Description: Manufacturer; ComponentLink1URL: http://www.we-online.de; ComponentLink2Description: Datasheet; ComponentLink2URL: http://katalog.we-online.de/pbs/datasheet/865080543007.pdf; Published Date: June 2017; Publisher: Wurth Elektronik; Size: Ф6.3x5.5mm; Life Cycle: 2000h; Operating Temperature: -55 °C up to +105 °C
footprint WCAP-ASLI_6.3x5.5
pins: 1 P, 2 N

## 865080543008
designator C?  value 33uF
WCAP-ASLI Aluminum Electrolytic Capacitors, size Ф6.3x5.5mm, 35V DC, 33uF; Part Number: 865080543008; Rated Voltage: 35V DC; ComponentLink1Description: Manufacturer; ComponentLink1URL: http://www.we-online.de; ComponentLink2Description: Datasheet; ComponentLink2URL: http://katalog.we-online.de/pbs/datasheet/865080543008.pdf; Published Date: June 2017; Publisher: Wurth Elektronik; Size: Ф6.3x5.5mm; Life Cycle: 2000h; Operating Temperature: -55 °C up to +105 °C
footprint WCAP-ASLI_6.3x5.5
pins: 1 P, 2 N

## 865080543009
designator C?  value 47uF
WCAP-ASLI Aluminum Electrolytic Capacitors, size Ф6.3x5.5mm, 35V DC, 47uF; Part Number: 865080543009; Rated Voltage: 35V DC; ComponentLink1Description: Manufacturer; ComponentLink1URL: http://www.we-online.de; ComponentLink2Description: Datasheet; ComponentLink2URL: http://katalog.we-online.de/pbs/datasheet/865080543009.pdf; Published Date: June 2017; Publisher: Wurth Elektronik; Size: Ф6.3x5.5mm; Life Cycle: 2000h; Operating Temperature: -55 °C up to +105 °C
footprint WCAP-ASLI_6.3x5.5
pins: 1 P, 2 N

## 865080545010
designator C?  value 56uF
WCAP-ASLI Aluminum Electrolytic Capacitors, size Ф6.3x7.7mm, 35V DC, 56uF; Part Number: 865080545010; Rated Voltage: 35V DC; ComponentLink1Description: Manufacturer; ComponentLink1URL: http://www.we-online.de; ComponentLink2Description: Datasheet; ComponentLink2URL: http://katalog.we-online.de/pbs/datasheet/865080545010.pdf; Published Date: June 2017; Publisher: Wurth Elektronik; Size: Ф6.3x7.7mm; Life Cycle: 2000h; Operating Temperature: -55 °C up to +105 °C
footprint WCAP-ASLI_6.3x7.7
pins: 1 P, 2 N

## 865080545011
designator C?  value 68uF
WCAP-ASLI Aluminum Electrolytic Capacitors, size Ф6.3x7.7mm, 35V DC, 68uF; Part Number: 865080545011; Rated Voltage: 35V DC; ComponentLink1Description: Manufacturer; ComponentLink1URL: http://www.we-online.de; ComponentLink2Description: Datasheet; ComponentLink2URL: http://katalog.we-online.de/pbs/datasheet/865080545011.pdf; Published Date: June 2017; Publisher: Wurth Elektronik; Size: Ф6.3x7.7mm; Life Cycle: 2000h; Operating Temperature: -55 °C up to +105 °C
footprint WCAP-ASLI_6.3x7.7
pins: 1 P, 2 N

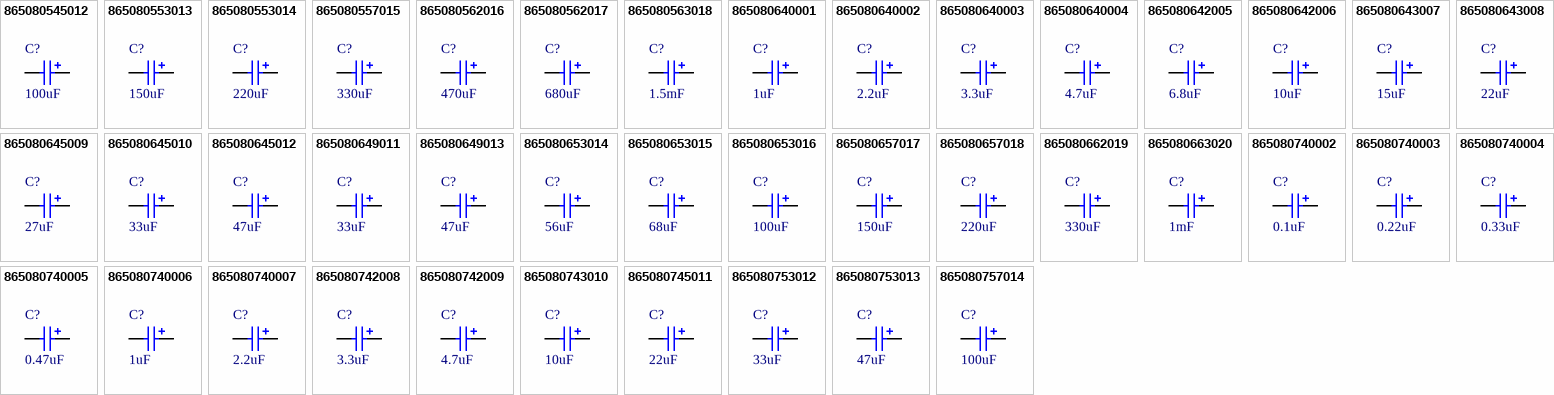
[diagram p2: symbols 865080545012 to 865080757014]

## 865080545012
designator C?  value 100uF
WCAP-ASLI Aluminum Electrolytic Capacitors, size Ф6.3x7.7mm, 35V DC, 100uF; Part Number: 865080545012; Rated Voltage: 35V DC; ComponentLink1Description: Manufacturer; ComponentLink1URL: http://www.we-online.de; ComponentLink2Description: Datasheet; ComponentLink2URL: http://katalog.we-online.de/pbs/datasheet/865080545012.pdf; Published Date: June 2017; Publisher: Wurth Elektronik; Size: Ф6.3x7.7mm; Life Cycle: 2000h; Operating Temperature: -55 °C up to +105 °C
footprint WCAP-ASLI_6.3x7.7
pins: 1 P, 2 N

## 865080553013
designator C?  value 150uF
WCAP-ASLI Aluminum Electrolytic Capacitors, size Ф8x10.5mm, 35V DC, 150uF; Part Number: 865080553013; Rated Voltage: 35V DC; ComponentLink1Description: Manufacturer; ComponentLink1URL: http://www.we-online.de; ComponentLink2Description: Datasheet; ComponentLink2URL: http://katalog.we-online.de/pbs/datasheet/865080553013.pdf; Published Date: June 2017; Publisher: Wurth Elektronik; Size: Ф8x10.5mm; Life Cycle: 2000h; Operating Temperature: -55 °C up to +105 °C
footprint WCAP-ASLI_8x10.5
pins: 1 P, 2 N

## 865080553014
designator C?  value 220uF
WCAP-ASLI Aluminum Electrolytic Capacitors, size Ф8x10.5mm, 35V DC, 220uF; Part Number: 865080553014; Rated Voltage: 35V DC; ComponentLink1Description: Manufacturer; ComponentLink1URL: http://www.we-online.de; ComponentLink2Description: Datasheet; ComponentLink2URL: http://katalog.we-online.de/pbs/datasheet/865080553014.pdf; Published Date: June 2017; Publisher: Wurth Elektronik; Size: Ф8x10.5mm; Life Cycle: 2000h; Operating Temperature: -55 °C up to +105 °C
footprint WCAP-ASLI_8x10.5
pins: 1 P, 2 N

## 865080557015
designator C?  value 330uF
WCAP-ASLI Aluminum Electrolytic Capacitors, size Ф10x10.5mm, 35V DC, 330uF; Part Number: 865080557015; Rated Voltage: 35V DC; ComponentLink1Description: Manufacturer; ComponentLink1URL: http://www.we-online.de; ComponentLink2Description: Datasheet; ComponentLink2URL: http://katalog.we-online.de/pbs/datasheet/865080557015.pdf; Published Date: June 2017; Publisher: Wurth Elektronik; Size: Ф10x10.5mm; Life Cycle: 2000h; Operating Temperature: -55 °C up to +105 °C
footprint WCAP-ASLI_10x10.5
pins: 1 P, 2 N

## 865080562016
designator C?  value 470uF
WCAP-ASLI Aluminum Electrolytic Capacitors, size Ф12.5x14mm, 35V DC, 470uF; Part Number: 865080562016; Rated Voltage: 35V DC; ComponentLink1Description: Manufacturer; ComponentLink1URL: http://www.we-online.de; ComponentLink2Description: Datasheet; ComponentLink2URL: http://katalog.we-online.de/pbs/datasheet/865080562016.pdf; Published Date: June 2017; Publisher: Wurth Elektronik; Size: Ф12.5x14mm; Life Cycle: 2000h; Operating Temperature: -55 °C up to +105 °C
footprint WCAP-ASLI_12.5x14
pins: 1 P, 2 N

## 865080562017
designator C?  value 680uF
WCAP-ASLI Aluminum Electrolytic Capacitors, size Ф12.5x14mm, 35V DC, 680uF; Part Number: 865080562017; Rated Voltage: 35V DC; ComponentLink1Description: Manufacturer; ComponentLink1URL: http://www.we-online.de; ComponentLink2Description: Datasheet; ComponentLink2URL: http://katalog.we-online.de/pbs/datasheet/865080562017.pdf; Published Date: June 2017; Publisher: Wurth Elektronik; Size: Ф12.5x14mm; Life Cycle: 2000h; Operating Temperature: -55 °C up to +105 °C
footprint WCAP-ASLI_12.5x14
pins: 1 P, 2 N

## 865080563018
designator C?  value 1.5mF
WCAP-ASLI Aluminum Electrolytic Capacitors, size Ф16x17mm, 35V DC, 1.5mF; Part Number: 865080563018; Rated Voltage: 35V DC; ComponentLink1Description: Manufacturer; ComponentLink1URL: http://www.we-online.de; ComponentLink2Description: Datasheet; ComponentLink2URL: http://katalog.we-online.de/pbs/datasheet/865080563018.pdf; Published Date: June 2017; Publisher: Wurth Elektronik; Size: Ф16x17mm; Life Cycle: 2000h; Operating Temperature: -55 °C up to +105 °C
footprint WCAP-ASLI_16x17
pins: 1 P, 2 N

## 865080640001
designator C?  value 1uF
WCAP-ASLI Aluminum Electrolytic Capacitors, size Ф4x5.5mm, 50V DC, 1uF; Part Number: 865080640001; Rated Voltage: 50V DC; ComponentLink1Description: Manufacturer; ComponentLink1URL: http://www.we-online.de; ComponentLink2Description: Datasheet; ComponentLink2URL: http://katalog.we-online.de/pbs/datasheet/865080640001.pdf; Published Date: June 2017; Publisher: Wurth Elektronik; Size: Ф4x5.5mm; Life Cycle: 2000h; Operating Temperature: -55 °C up to +105 °C
footprint WCAP-ASLI_4x5.5
pins: 1 P, 2 N

## 865080640002
designator C?  value 2.2uF
WCAP-ASLI Aluminum Electrolytic Capacitors, size Ф4x5.5mm, 50V DC, 2.2uF; Part Number: 865080640002; Rated Voltage: 50V DC; ComponentLink1Description: Manufacturer; ComponentLink1URL: http://www.we-online.de; ComponentLink2Description: Datasheet; ComponentLink2URL: http://katalog.we-online.de/pbs/datasheet/865080640002.pdf; Published Date: June 2017; Publisher: Wurth Elektronik; Size: Ф4x5.5mm; Life Cycle: 2000h; Operating Temperature: -55 °C up to +105 °C
footprint WCAP-ASLI_4x5.5
pins: 1 P, 2 N

## 865080640003
designator C?  value 3.3uF
WCAP-ASLI Aluminum Electrolytic Capacitors, size Ф4x5.5mm, 50V DC, 3.3uF; Part Number: 865080640003; Rated Voltage: 50V DC; ComponentLink1Description: Manufacturer; ComponentLink1URL: http://www.we-online.de; ComponentLink2Description: Datasheet; ComponentLink2URL: http://katalog.we-online.de/pbs/datasheet/865080640003.pdf; Published Date: June 2017; Publisher: Wurth Elektronik; Size: Ф4x5.5mm; Life Cycle: 2000h; Operating Temperature: -55 °C up to +105 °C
footprint WCAP-ASLI_4x5.5
pins: 1 P, 2 N